# EAGLE library part 815 (library tubes_pmillett)
815 double beam tube (dual 2E26)
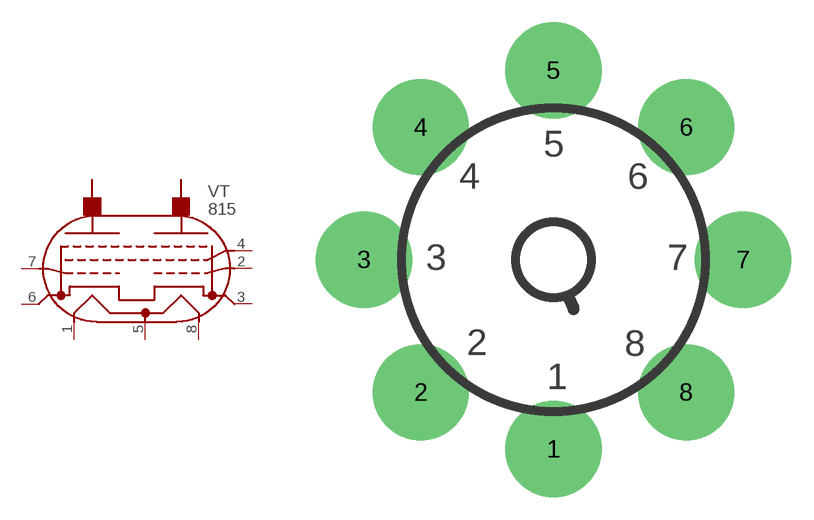
[diagram p5: symbol with the pads of OCTAL_BOTTOM; footprint OCTAL_BOTTOM]

Designator prefix VT

## 815  [OCTAL_BOTTOM]
1  F1  pas
2  G1B  pas
3  K2  pas
4  G2  pas
5  FCT  pas
6  K1  pas
7  G1A  pas
8  F2  pas

## Footprint OCTAL_BOTTOM (pad centres in mm)
TUBE SOCKET, OCTAL, PCB, BOTTOM SIDE
drill 2.54 pad 6.452: 1 0,-12.7; 2 -8.89,-8.89; 3 -12.7,0; 4 -8.89,8.89; 5 0,12.7; 6 8.89,8.89; 7 12.7,0; 8 8.89,-8.89